# Altium footprint library TO-3P.PcbLib: 1 footprints
Each footprint in its own frame and in the unit in brackets; x right, y up, seen from the top. Pads: shape width x height; smd on the part's side, far side on the other; paste and mask are expansions set on the pad; w line width, h text height; cw(c..) or ccw(c..) is an arc to the next point about the centre after c.
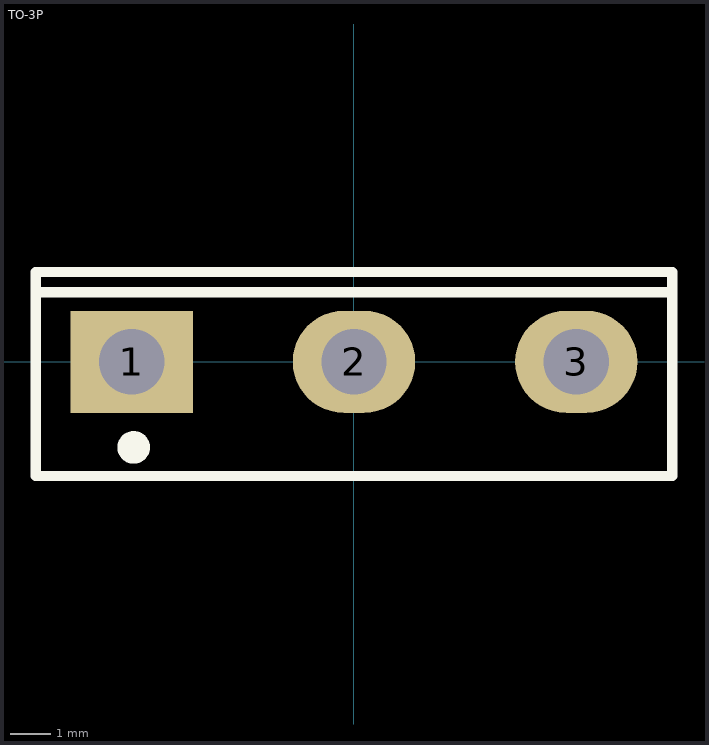
[diagram p0: the footprint, top view; thin cyan lines are the x and y axes]

## TO-3P [mm]
pads (3):
  rect 3x2.5 hole 1.6: 1(-5.45,0)
  oval 3x2.5 hole 1.6: 2(0,0) 3(5.45,0)
Top Overlay:
  circle w0.4: c-5.4,-2.1 r0.2
  lines w0.254: -7.8,1.7 7.8,1.7 ; -7.8,-2.8 -7.8,2.2 7.8,2.2 7.8,-2.8 -7.8,-2.8
3D body: height 24.4, standoff -15.5, extent -7.9,-2.9 7.7,1.81